# Altium footprint library sop20FORLM5576.PcbLib: 3 footprints
Each footprint in its own frame and in the unit in brackets; x right, y up, seen from the top. Pads: shape width x height; smd on the part's side, far side on the other; paste and mask are expansions set on the pad; w line width, h text height; cw(c..) or ccw(c..) is an arc to the next point about the centre after c.
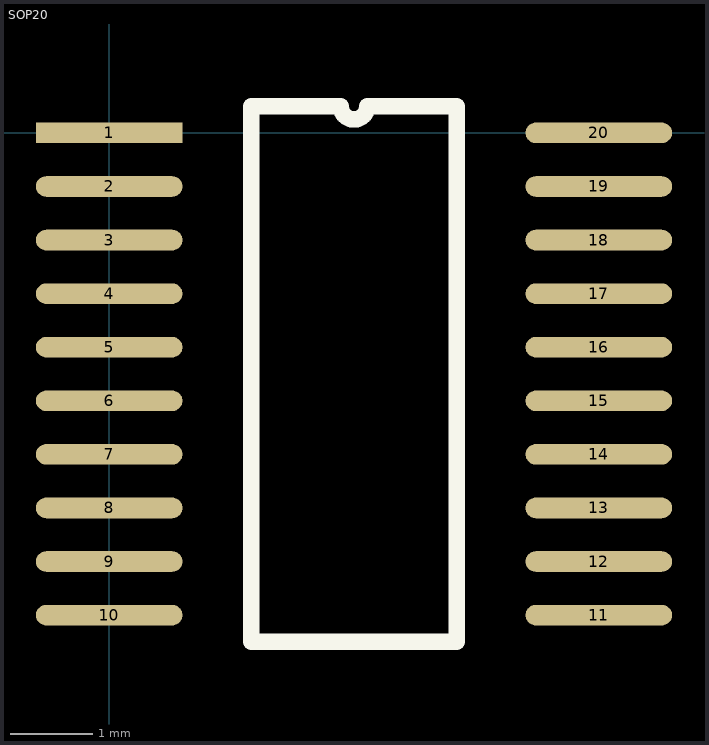
[diagram p0: the footprints below, top view; thin cyan lines are the x and y axes]

## PCBComponent_1 [mm]

## PCBComponent_1 - duplicate [mm]

## SOP20 [mm]
pads (20):
  rect 1.78x0.25 smd: 1(0,0)
  oval 1.78x0.25 smd: 2(0,-0.65) 3(0,-1.3) 4(0,-1.95) 5(0,-2.6) 6(0,-3.25) 7(0,-3.9) 8(0,-4.55) 9(0,-5.2) 10(0,-5.85) 11(5.94,-5.85) 12(5.94,-5.2) 13(5.94,-4.55) 14(5.94,-3.9) 15(5.94,-3.25) 16(5.94,-2.6) 17(5.94,-1.95) 18(5.94,-1.3) 19(5.94,-0.65) 20(5.94,0)
Top Overlay:
  lines w0.2: 1.725,-6.175 1.725,0.325 2.808,0.325 ccw(c2.97,0.325) 3.132,0.325 4.215,0.325 4.215,-6.175 1.725,-6.175